# EAGLE library part MC100LVEL92DWG (library ON Semiconductor_By_element14_Batch_1)
5V Triple PECL Input to LVPECL Output Translator
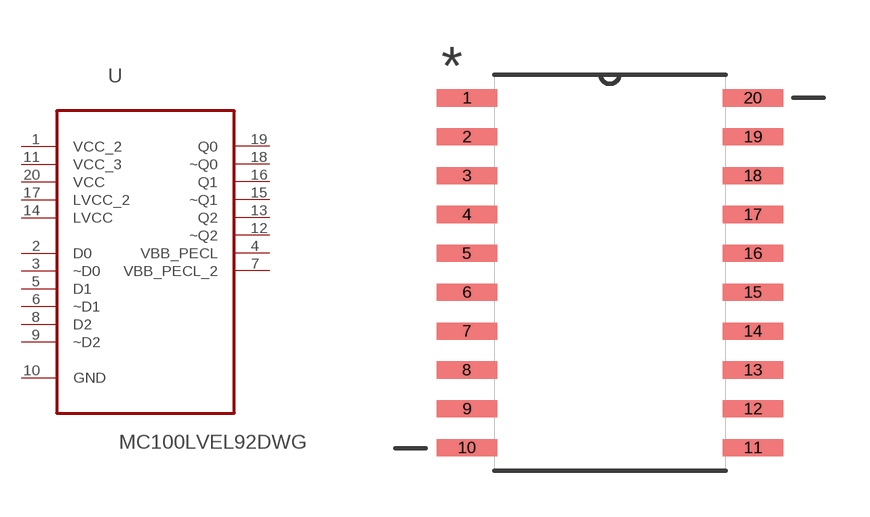
[diagram p149: symbol with the pads of SOIC127P1030X265-20N; footprint SOIC127P1030X265-20N]

Designator prefix U

## MC100LVEL92DWG (MPN: MC100LVEL92DWG; OC_FARNELL: 1155551; OC_NEWARK: 71J5440; PACKAGE: SOIC-20; SUPPLIER: ON SEMICONDUCTOR)  [SOIC127P1030X265-20N]
1  VCC_2  pwr
2  D0  in
3  ~D0  in
4  VBB_PECL  out
5  D1  in
6  ~D1  in
7  VBB_PECL_2  out
8  D2  in
9  ~D2  in
10  GND  in
11  VCC_3  pwr
12  ~Q2  out
13  Q2  out
14  LVCC  pwr
15  ~Q1  in
16  Q1  in
17  LVCC_2  pwr
18  ~Q0  out
19  Q0  out
20  VCC  pwr

## Footprint SOIC127P1030X265-20N (pad centres in mm)
smd 1.981 x 0.559: 1 -4.674,5.715; 2 -4.674,4.445; 3 -4.674,3.175; 4 -4.674,1.905; 5 -4.674,0.635; 6 -4.674,-0.635; 7 -4.674,-1.905; 8 -4.674,-3.175; 9 -4.674,-4.445; 10 -4.674,-5.715; 11 4.674,-5.715; 12 4.674,-4.445; 13 4.674,-3.175; 14 4.674,-1.905; 15 4.674,-0.635; 16 4.674,0.635; 17 4.674,1.905; 18 4.674,3.175; 19 4.674,4.445; 20 4.674,5.715